# EAGLE library part SAM_JTAG (library atmel)
PIN HEADER
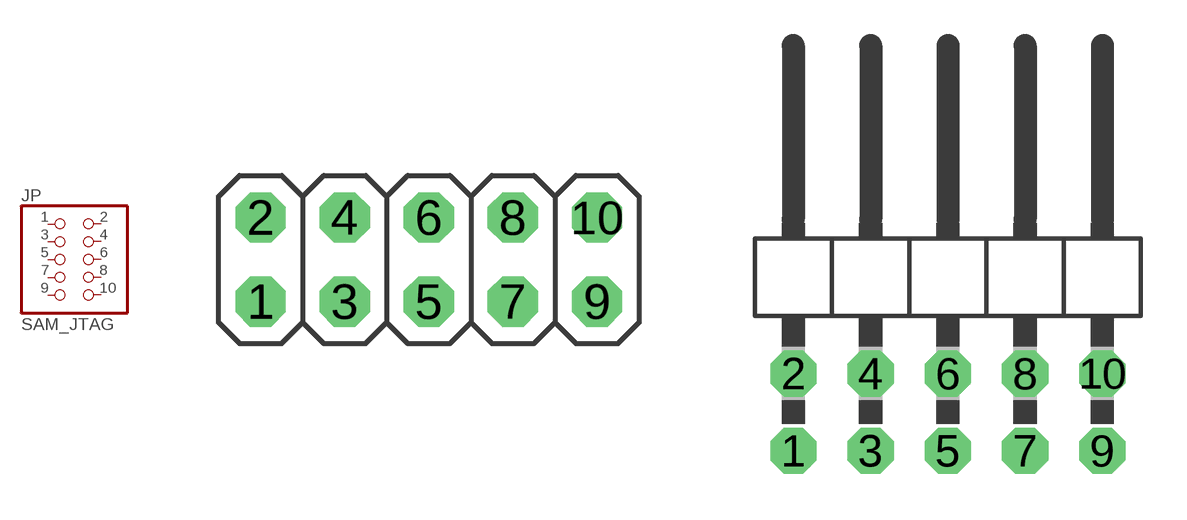
[diagram p93: symbol with the pads of 2X05; footprints 2X05, 2X05/90]

Designator prefix JP

## SAM_JTAG  [2X05]
1  VCC  pas
2  TMS  pas
3  GND  pas
4  TCK  pas
5  GND  pas
6  TDO  pas
7  (KEY)  pas
8  TDI  pas
9  GND  pas
10  N_RESET  pas

## SAM_JTAG/90  [2X05/90]
Pads as for 2X05

## Footprint 2X05 (pad centres in mm)
PIN HEADER
drill 1.016 octagon: 1 -5.08,-1.27; 2 -5.08,1.27; 3 -2.54,-1.27; 4 -2.54,1.27; 5 0,-1.27; 6 0,1.27; 7 2.54,-1.27; 8 2.54,1.27; 9 5.08,-1.27; 10 5.08,1.27

## Footprint 2X05/90 (pad centres in mm)
PIN HEADER
drill 1.016 octagon: 1 -5.08,-6.35; 2 -5.08,-3.81; 3 -2.54,-6.35; 4 -2.54,-3.81; 5 0,-6.35; 6 0,-3.81; 7 2.54,-6.35; 8 2.54,-3.81; 9 5.08,-6.35; 10 5.08,-3.81